# EAGLE library part OLED128X64BOTTOM (library SparkFun-Displays)
Micro OLED TODO: Add description SparkFun Products: product <https://www.sparkfun.com/products/13003>
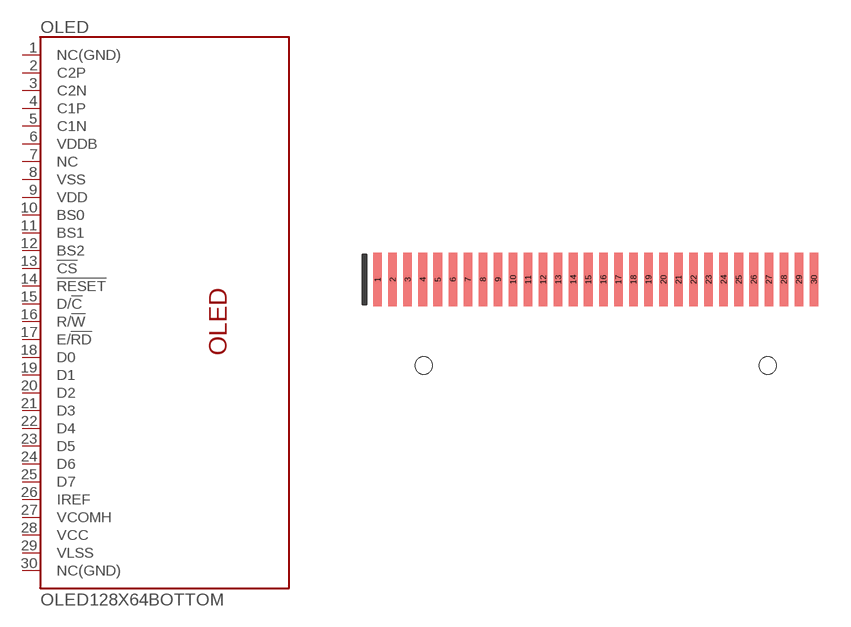
[diagram p0: symbol with the pads of OLED-UG-2832HLBEG04; footprint OLED-UG-2832HLBEG04]

Designator prefix OLED

## OLED128X64BOTTOM  [OLED-UG-2832HLBEG04]
1  NC(GND)
2  C2P
3  C2N
4  C1P
5  C1N
6  VDDB
7  NC
8  VSS
9  VDD
10  BS0
11  BS1
12  BS2
13  !CS!
14  !RESET!
15  D/!C!
16  R/!W!
17  E/!RD!
18  D0
19  D1
20  D2
21  D3
22  D4
23  D5
24  D6
25  D7
26  IREF
27  VCOMH
28  VCC
29  VLSS
30  NC(GND)

## Footprint OLED-UG-2832HLBEG04 (pad centres in mm)
OLDE display Specifications: Pin count: 30 Pin pitch: 0.7mm Area: Datasheet referenced for footprint: Example device(s): Microview breakout <https://www.sparkfun.com/products/13003>
smd 0.4 x 2.5: 1 0.85,-0.75; 2 1.55,-0.75; 3 2.25,-0.75; 4 2.95,-0.75; 5 3.65,-0.75; 6 4.35,-0.75; 7 5.05,-0.75; 8 5.75,-0.75; 9 6.45,-0.75; 10 7.15,-0.75; 11 7.85,-0.75; 12 8.55,-0.75; 13 9.25,-0.75; 14 9.95,-0.75; 15 10.65,-0.75; 16 11.35,-0.75; 17 12.05,-0.75; 18 12.75,-0.75; 19 13.45,-0.75; 20 14.15,-0.75; 21 14.85,-0.75; 22 15.55,-0.75; 23 16.25,-0.75; 24 16.95,-0.75; 25 17.65,-0.75; 26 18.35,-0.75; 27 19.05,-0.75; 28 19.75,-0.75; 29 20.45,-0.75; 30 21.15,-0.75
hole 0.8 at 19,-4.75
hole 0.8 at 3,-4.75